# EAGLE library part 418317170912 (library Wurth_Elektronik_Electromechanic_Switch_rev15d)
WS-PT 2.54 mm piano type compact THT Dip Switch with flat actuator, 12 Pole
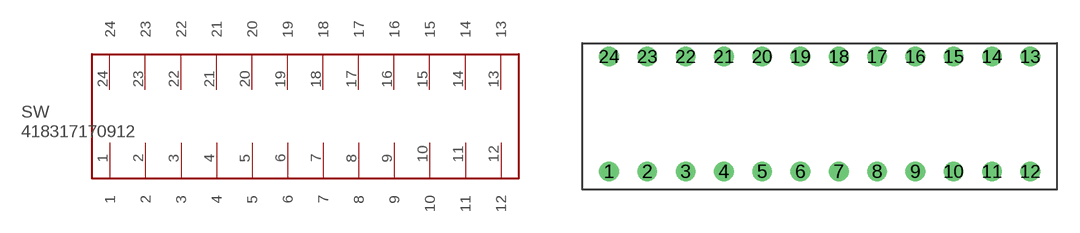
[diagram p108: symbol with the pads of 418317170912; footprint 418317170912]

Designator prefix SW

## 418317170912  [418317170912]
1  1
2  2
3  3
4  4
5  5
6  6
7  7
8  8
9  9
10  10
11  11
12  12
13  13
14  14
15  15
16  16
17  17
18  18
19  19
20  20
21  21
22  22
23  23
24  24

## Footprint 418317170912 (pad centres in mm)
WS-PT 2.54 mm piano type compact THT Dip Switch with flat actuator, 12 Pole
drill 0.8: 1 -12.7,-3.81; 2 -10.16,-3.81; 3 -7.62,-3.81; 4 -5.08,-3.81; 5 -2.54,-3.81; 6 0,-3.81; 7 2.54,-3.81; 8 5.08,-3.81; 9 7.62,-3.81; 10 10.16,-3.81; 11 12.7,-3.81; 12 15.24,-3.81; 13 15.24,3.81; 14 12.7,3.81; 15 10.16,3.81; 16 7.62,3.81; 17 5.08,3.81; 18 2.54,3.81; 19 0,3.81; 20 -2.54,3.81; 21 -5.08,3.81; 22 -7.62,3.81; 23 -10.16,3.81; 24 -12.7,3.81